# EAGLE library part 4606X-101-103LF (library FDC9266_floppy_korr)
5-bussed thick film resistor,10K 0.2W Bourns Bussed Resistor Network 10k +/-2% 5 Resistors, 0.75W Total, SIP package 4600X Through Hole Source: Datasheet <https://www.bourns.com/pdfs/4600X.pdf>
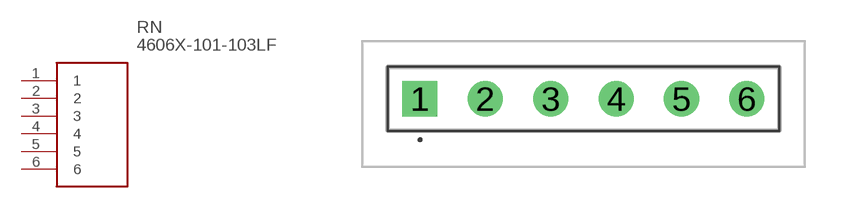
[diagram p4: symbol with the pads of 4606X102103LF; footprint 4606X102103LF]

Designator prefix RN

## 4606X-101-103LF (ARROW_PART_NUMBER: 4606X-101-103LF; ARROW_PRICE-STOCK: https://www.arrow.com/en/products/4606x-101-103lf/bourns?region=europe; DESCRIPTION: 5-bussed thick film resistor,10K 0.2W Bourns Bussed Resistor Network 10k +/-2% 5 Resistors, 0.75W Total, SIP package 4600X Through Hole; HEIGHT: 5mm; MANUFACTURER_NAME: Bourns; MANUFACTURER_PART_NUMBER: 4606X-101-103LF; MOUSER_PART_NUMBER: 652-4606X-1LF-10K; MOUSER_PRICE-STOCK: https://www.mouser.co.uk/ProductDetail/Bourns/4606X-101-103LF?qs=Qv7qbSW4mEHqAfbN3SBBUw%3D%3D)  [4606X102103LF]
1  1
2  2
3  3
4  4
5  5
6  6

## Footprint 4606X102103LF (pad centres in mm)
4606X_1
drill 0.84 pad 1.365 square: 1 -6.355,0.203
drill 0.84 pad 1.365: 2 -3.815,0.203; 3 -1.275,0.203; 4 1.265,0.203; 5 3.805,0.203; 6 6.345,0.203